# EAGLE library part VID28-05 (library vd28-05)
VID28-05 Stepper Motor With Dual Coaxial Shafts Designed for automotive dashboards.
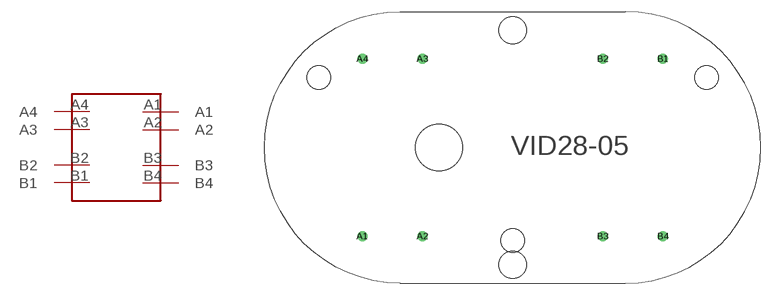
[diagram p0: symbol with the pads of VID28-05; footprint VID28-05]

Designator prefix -

## VID28-05  [VID28-05]
A1  A1
A2  A2
A3  A3
A4  A4
B1  B1
B2  B2
B3  B3
B4  B4

## Footprint VID28-05 (pad centres in mm)
VID28-05 Stepper Motor With Dual Coaxial Shafts Designed for automotive dashboards.
drill 0.8: A1 12.621,6.071; A2 20.381,6.071; A3 20.381,28.931; A4 12.621,28.931; B1 51.379,28.931; B2 43.619,28.931; B3 43.619,6.071; B4 51.379,6.071
hole 3 at 7,26.5
hole 3 at 32.001,5.499
hole 3 at 57,26.5
hole 6 at 22.499,17.5
hole 3.5 at 31.999,2.4
hole 3.5 at 31.999,32.601